# EAGLE library part AB-RTCMC-32.768KHZ-IBO5-S3-T (library RTC)
IC RTC CLK/CALEND I2C 10CLCC ULP Manufacturer's datasheet <https://abracon.com/realtimeclock/AB-RTCMC-32.768kHz-IBO5-S3.pdf>
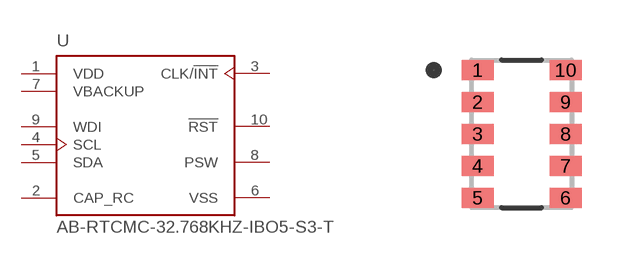
[diagram p13: symbol with the pads of AB-RTCMC-32.768KHZ-IBO5-S3-T; footprint AB-RTCMC-32.768KHZ-IBO5-S3-T]

Designator prefix U

## AB-RTCMC-32.768KHZ-IBO5-S3-T (CREATED_BY: PCBLayout.com; DIGIKEY_PARTNO: 535-13301-1-ND; MANUFACTURER: Abracon LLC; MPN: AB-RTCMC-32.768KHZ-IBO5-S3-T; PACKAGE: 10-SMD MODULE)  [AB-RTCMC-32.768KHZ-IBO5-S3-T]
1  VDD  pwr
2  CAP_RC  pas
3  CLK/!INT  out
4  SCL  in
5  SDA  pas
6  VSS  pwr
7  VBACKUP  pwr
8  PSW  out
9  WDI  in
10  !RST  out

## Footprint AB-RTCMC-32.768KHZ-IBO5-S3-T (pad centres in mm)
smd 0.8 x 0.5: 1 -1.1,1.6; 2 -1.1,0.8; 3 -1.1,0; 4 -1.1,-0.8; 5 -1.1,-1.6; 6 1.1,-1.6; 7 1.1,-0.8; 8 1.1,0; 9 1.1,0.8; 10 1.1,1.6